# Altium footprint library JST_S5B-EH.PcbLib: 1 footprints
Each footprint in its own frame and in the unit in brackets; x right, y up, seen from the top. Pads: shape width x height; smd on the part's side, far side on the other; paste and mask are expansions set on the pad; w line width, h text height; cw(c..) or ccw(c..) is an arc to the next point about the centre after c.
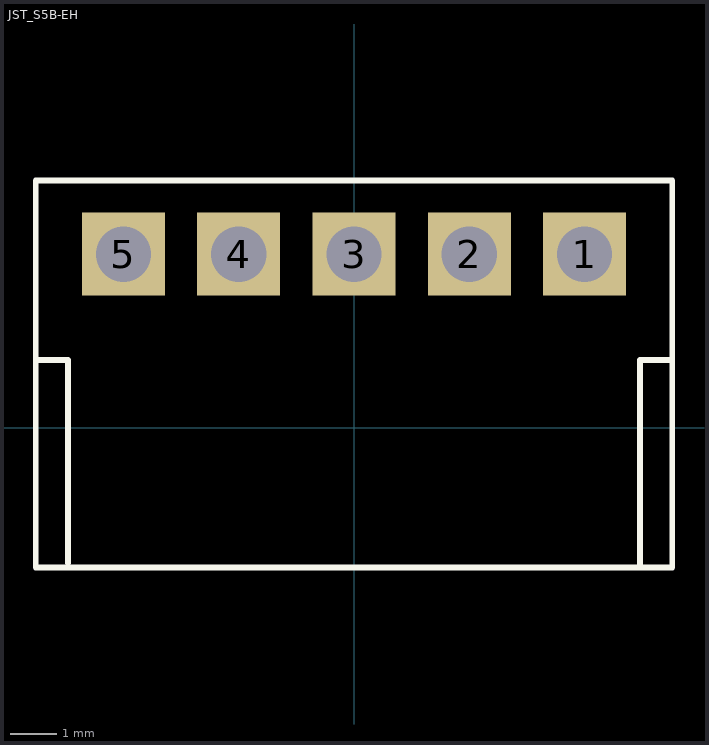
[diagram p0: the footprint, top view; thin cyan lines are the x and y axes]

## JST_S5B-EH [mm]
pads (5):
  rect 1.8x1.8 / inner round 1.8 / far side rect 1.8x1.8 hole 1.2 mask+0.102: 1(5,3.77) 2(2.5,3.77) 3(0,3.77) 4(-2.5,3.77) 5(-5,3.77)
Top Overlay:
  lines w0.127: -6.2,-2.93 -6.2,1.47 -6.9,1.47 ; -6.9,1.47 -6.9,-3.03 6.9,-3.03 ; -6.9,1.47 -6.9,5.37 6.9,5.37 6.9,1.47 ; 6.9,-3.03 6.2,-3.03 6.2,1.47 6.9,1.47 ; 6.9,-3.03 6.9,1.47
3D body "step_temp.STEP": height 4.2, standoff -3.2, extent -7.5,-2.957 7.5,5.243